# Altium schematic symbol library 2021-03-09_17-39-11.SchLib: 2 symbols
Pins are listed as number, name and electrical type; pins without a type are passive.

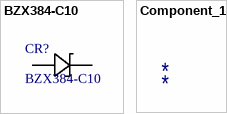
[diagram p0: symbols BZX384-C10 to Component_1]

## BZX384-C10
designator CR?
No Description Available; Vendor: NXP; Built_By: EMA_UL_Team; SourceLibrary: NXP_2011-11-10; Type: DEV; Manufacturer_Part_Number: BZX384-C10; Copyright: Copyright (C) 2018 Accelerated Designs. All rights reserved; RefDes: RefDes
footprint SOD323F_NXP
pins: 1, 2

## Component_1
designator *